# EAGLE library part MC74VHC157 (library FaBo-Multiplexers)
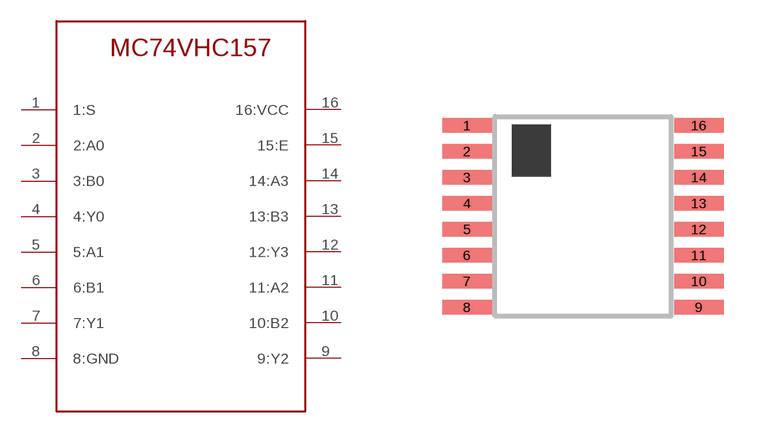
[diagram p2: symbol with the pads of MC74VHC157_TSSOP-16; footprint MC74VHC157_TSSOP-16]

Designator prefix -

## MC74VHC157  [MC74VHC157_TSSOP-16]
1  1:S
2  2:A0
3  3:B0
4  4:Y0
5  5:A1
6  6:B1
7  7:Y1
8  8:GND
9  9:Y2
10  10:B2
11  11:A2
12  12:Y3
13  13:B3
14  14:A3
15  15:E
16  16:VCC

## Footprint MC74VHC157_TSSOP-16 (pad centres in mm)
smd 1.26 x 0.36: 1 -2.9,2.275; 2 -2.9,1.625; 3 -2.9,0.975; 4 -2.9,0.325; 5 -2.9,-0.325; 6 -2.9,-0.975; 7 -2.9,-1.625; 8 -2.9,-2.275; 9 2.9,-2.275; 10 2.9,-1.625; 11 2.9,-0.975; 12 2.9,-0.325; 13 2.9,0.325; 14 2.9,0.975; 15 2.9,1.625; 16 2.9,2.275